# Altium schematic symbol library antennas.SchLib: 8 symbols
Pins are listed as number, name and electrical type; pins without a type are passive.

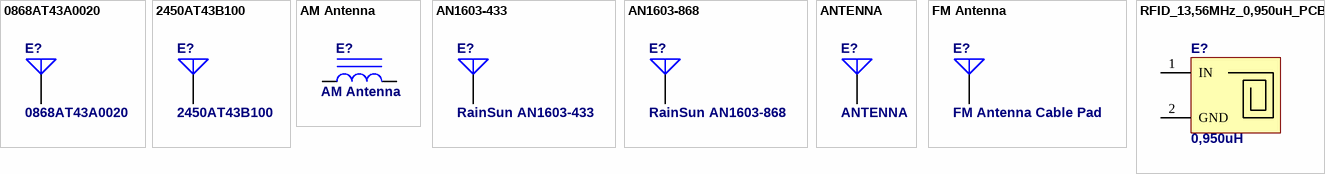
[diagram p0: symbols 0868AT43A0020 to RFID_13,56MHz_0,950uH_PCB]

## 0868AT43A0020
designator E?
Chip Antenna for 868MHz Wireless Communication (Johanson Technology); Published: 24-Mar-1999; LatestRevisionDate: 17-Jul-2002; LatestRevisionNote: Re-released for DXP Platform.; PackageReference: PIN1; Publisher: Altium Limited
footprint 0868AT43A0020
pins: 1 A

## 2450AT43B100
designator E?
2.4 GHz WLAN, Home RF, Bluetooth Antenna, 802.11 b/g (Johanson Technology); Published: 24-Mar-1999; LatestRevisionDate: 17-Jul-2002; LatestRevisionNote: Re-released for DXP Platform.; PackageReference: PIN1; Publisher: Altium Limited
footprint 2450AT43B100 (BT 2.4GHz Antenna)
pins: 1 A

## AM Antenna
designator E?  (no BOM)
AM Antenna Cable Pads; Published: 24-Mar-1999; LatestRevisionDate: 17-Jul-2002; LatestRevisionNote: Re-released for DXP Platform.; PackageReference: AXIAL-0.9; Publisher: Altium Limited; PackageDescription: Axial Device, Thru-Hole; 2 Leads; 0.9 in Pin Spacing
footprint AMACPs (AM Antenna Cable Pads)
pins: 1, 2

## AN1603-433
designator E?, comment RainSun AN1603-433
RainSun Multilayer Chip Antenna for 433MHz Wireless Communication; Published: 24-Mar-1999; LatestRevisionDate: 17-Jul-2002; LatestRevisionNote: Re-released for DXP Platform.; PackageReference: PIN1; Publisher: Altium Limited
footprint RainSun AN1603-433 (Multilayer Chip Antenna for 433MHz Wireless Communication)
pins: 1 A

## AN1603-868
designator E?, comment RainSun AN1603-868
RainSun Multilayer Chip Antenna for 868MHz Wireless Communication; Published: 24-Mar-1999; LatestRevisionDate: 17-Jul-2002; LatestRevisionNote: Re-released for DXP Platform.; PackageReference: PIN1; Publisher: Altium Limited
footprint RainSun AN1603-868 (Multilayer Chip Antenna for 868MHz Wireless Communication)
pins: 1 A

## ANTENNA
designator E?  (no BOM)
Published: 24-Mar-1999; LatestRevisionDate: 17-Jul-2002; LatestRevisionNote: Re-released for DXP Platform.; PackageReference: PIN1; Publisher: Altium Limited
footprint DIPOL_FEED
pins: 1 A

## FM Antenna
designator E?, comment FM Antenna Cable Pad  (no BOM)
Published: 24-Mar-1999; LatestRevisionDate: 17-Jul-2002; LatestRevisionNote: Re-released for DXP Platform.; PackageReference: PIN1; Publisher: Altium Limited
footprint FMACP (FM Antenna Cable Pad)
pins: 1 A

## RFID_13,56MHz_0,950uH_PCB
designator E?, comment 0,950uH  (no BOM)
13,56MHz RFID PCB Antenna (0,950uH)
footprint RFID_13,56MHz_0,950uH (13,56MHz RFID PCB Antenna (0,950uH))
footprint RFID_13,56MHz_0,950uH_SHORT_EDGE (13,56MHz RFID PCB Antenna (0,950uH))
pins: 1 IN, 2 GND